# EAGLE library part 1.27_MALE_10P_HEADER (library edrtech_lib)
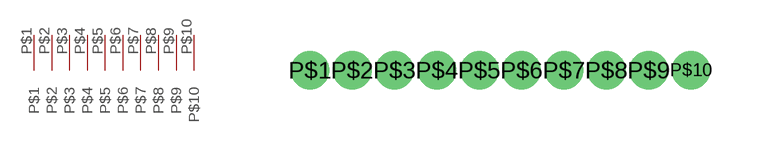
[diagram p44: symbol with the pads of 1.27_MALE_10P_HEADER; footprint 1.27_MALE_10P_HEADER]

Designator prefix -

## 1.27_MALE_10P_HEADER  [1.27_MALE_10P_HEADER]
P$1  P$1
P$2  P$2
P$3  P$3
P$4  P$4
P$5  P$5
P$6  P$6
P$7  P$7
P$8  P$8
P$9  P$9
P$10  P$10

## Footprint 1.27_MALE_10P_HEADER (pad centres in mm)
drill 0.65 pad 1.15: P$1 -5.715,0; P$2 -4.445,0; P$3 -3.175,0; P$4 -1.905,0; P$5 -0.635,0; P$6 0.635,0; P$7 1.905,0; P$8 3.175,0; P$9 4.445,0; P$10 5.715,0